# Altium schematic symbol library IC_Power.SchLib: 14 symbols
Pins are listed as number, name and electrical type; pins without a type are passive.

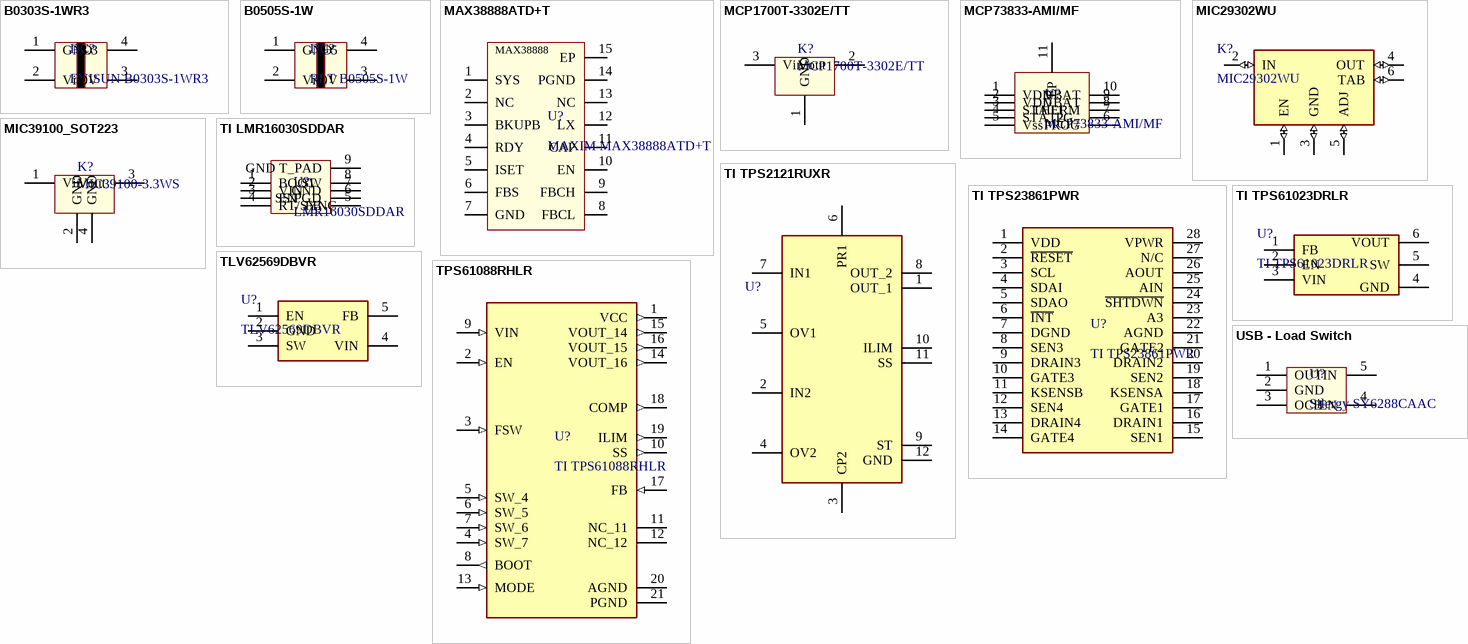
[diagram p0: symbols B0303S-1WR3 to USB - Load Switch]

## B0303S-1WR3
designator DC?, comment EVISUN B0303S-1WR3
Isolated Module DC DC Converter 3.3V 303mA 2.97V~3.63V Input; val: EVISUN B0303S-1WR3; sample link: https://www.lcsc.com/product-detail/C7465185.html?spm=wm.fly.bg.0.xh___wm.sxq.ssx.spl&lcsc_vid=FVFdBVUFR1ULBQFWR1cKXlxXQwQPVFVUQFJaUFIARFkxVlNRT1FYUVFVRFJWUDtW; unit price: $ 1.0212
footprint B_S-1W (SOT23, 6-Leads, Body 2.90x2.80mm, Pitch 0.95mm, IPC Medium Density)
pins: 1 GND "_", 2 Vin "_", 3 0V "_", 4 +3.3 "_"

## B0505S-1W
designator DC?, comment RLT B0505S-1W
Isolated Module DC DC Converter 1 Output 5V 200mA 4.5V~5.5V Input; note: from link; val: RLT B0505S-1W; sample link: https://www.lcsc.com/product-detail/C512032.html; unit price: $ 1.0096
footprint B_S-1W (SOT23, 6-Leads, Body 2.90x2.80mm, Pitch 0.95mm, IPC Medium Density)
pins: 1 GND "_", 2 Vin "_", 3 0V "_", 4 +5 "_"

## MAX38888ATD+T
designator U?, comment MAXIM MAX38888ATD+T
Supercapacitor 600mA TDFN-14-EP(3x3) Battery Management RoHS; note: Original; val: MAXIM MAX38888ATD+T; sample link: https://www.lcsc.com/product-detail/C2931491.html?s_z=n_max38888; datasheet: https://www.analog.com/media/en/technical-documentation/data-sheets/max38888.pdf; unit price: $ 4.0802
footprint MAX38888 (TDFN-EP Package 14 pins)
pins: 1 SYS, 2 NC, 3 BKUPB, 4 RDY, 5 ISET, 6 FBS, 7 GND, 8 FBCL, 9 FBCH, 10 EN, 11 CAP, 12 LX, 13 NC, 14 PGND, 15 EP
text: MAX38888

## MCP1700T-3302E/TT
designator K?
val: MCP1700T-3302E/TT; note: *; sample link: https://www.lcsc.com/product-detail/C39051.html?s_z=n_MCP1700T-3302E%252FTT; unit price: $ 0.4489
footprint SOT23-3 (SOT23, 3-Leads, Body 2.92x2.68mm, Pitch 0.95mm, IPC Medium Density)
pins: 1 GND, 2 Vout, 3 Vin

## MCP73833-AMI/MF
designator U?
Stand-Alone Linear Li-Ion / Li-Polymer Charge Management Controller; note: original; val: MCP73833-AMI/MF; sample link: https://www.lcsc.com/product-detail/C635264.html?s_z=n_q_MCP73833-AMI%252FMF&spm=wm.ssy.bg.0.xh&lcsc_vid=RVhdAVNUQwAIV1dSEwBWUF1URFhWXgYERVENVQEAQVExVlNRQFRdUldQR1ZYVTsOAxUeFF5JWBYZEEoKFBINSQcJGk4dAgUUFAk%3D; unit price: $ 1.69
footprint DFN-0-EP(3x3) (SOT23, 6-Leads, Body 2.90x2.80mm, Pitch 0.95mm, IPC Medium Density)
pins: 1 VDD "_", 2 VDD "_", 3 STAT1 "_", 4 STAT2 "_", 5 Vss "_", 6 PROG "_", 7 PG_ "_", 8 THERM "_", 9 VBAT "_", 10 VBAT "_", 11 EP "_"

## MIC29302WU
designator K?
Linear Voltage Regulator IC Positive Adjustable 1 Output 3A TO-263-5; note: Original; val: MIC29302WU; sample link: https://www.lcsc.com/product-detail/C2995533.html?s_z=n_MIC29302WU; unit price: $ 0.7581
footprint MIC29302WU
pins: 1 EN (io), 2 IN (io), 3 GND (io), 4 OUT (io), 5 ADJ (io), 6 TAB (io)

## MIC39100_SOT223
designator K?, comment MIC39100-3.3WS
LDO; / 2.25V -> 16V; / 1A Max; / Fixed Output - 1.8V, 2.5V, 3.3V, 5V; note: Original; val: MIC39100-3.3WS; sample link: https://www.lcsc.com/product-detail/Linear-Voltage-Regulators-span-style-background-color-ff0-LDO-span_MaxLinear-SPX3940AM3-L-3-3-TR_C48252.html; unit price: $ 0.7378
footprint SOT223-4 (SOT223, 4-Leads, Body 6,50x7,00mm (avg), Pitch 2,30mm, IPC Medium Density)
pins: 1 Vin, 2 GND, 3 Vout, 4 GND

## TI LMR16030SDDAR
designator U?, comment LMR16030SDDAR
60V 3A Step-Down Converter / 2.5MHz Buck Adjustable 1 SO-8-EP Voltage Regulators - DC DC Switching Regulators RoHS; note: original; val: LMR16030SDDAR; sample link: https://www.lcsc.com/product-detail/DC-DC-Converters_Texas-Instruments-LMR16030SDDAR_C136648.html; unit price: $ 0.5766
footprint SOIC8_T (SOIC, 8-Leads, Body 4.90x3.90mm, Pitch 1.27mm, Thermal Pad 3.10x2.40mm, IPC Medium Density)
pins: 1 BOOT "_", 2 VIN "_", 3 EN "_", 4 RT/SYNC "_", 5 FB "_", 6 SS/PGD "_", 7 GND "_", 8 SW "_", 9 GND T_PAD "_"

## TI TPS2121RUXR
designator U?  (value not drawn)
2.8-V to 22-V Priority Power MUX with Seamless Switchover; val: TI TPS2121RUXR; sample link: https://www.lcsc.com/product-detail/Battery-Management_Texas-Instruments-TPS2121RUXR_C485916.html?s_z=n_TPS2121; note: *; unit price: $ 1.23
footprint TPS2121RUXR
pins: 1 OUT_1, 2 IN2, 3 CP2, 4 OV2, 5 OV1, 6 PR1, 7 IN1, 8 OUT_2, 9 ST, 10 ILIM, 11 SS, 12 GND

## TI TPS23861PWR
designator U?
Power Sourcing Equipment (PSE) 25.5W TSSOP-28 Power Over Ethernet (PoE) Controllers RoHS; val: TI TPS23861PWR; note: *; sample link: http://lcsc.com/product-detail/C93245.html?s_z=n_TPS23861PW; unit price: $ 1.988
footprint SOP65P640X120-28N (TPS23861PWR)
pins: 1 VDD, 2 ~{RESET}, 3 SCL, 4 SDAI, 5 SDAO, 6 ~{INT}, 7 DGND, 8 SEN3, 9 DRAIN3, 10 GATE3, 11 KSENSB, 12 SEN4, 13 DRAIN4, 14 GATE4, 15 SEN1, 16 DRAIN1, 17 GATE1, 18 KSENSA, 19 SEN2, 20 DRAIN2, 21 GATE2, 22 AGND, 23 A3, 24 ~{SHTDWN}, 25 AIN, 26 AOUT, 27 N/C, 28 VPWR

## TI TPS61023DRLR
designator U?
3.7A boost converter with an ultra-low input voltage of 0.5V; sample link: https://www.lcsc.com/product-detail/DC-DC-Converters_Texas-Instruments-TPS61023DRLR_C919459.html?s_z=n_TPS61023; val: TI TPS61023DRLR; note: *; unit price: $ 1.34
footprint SOTFL50P160X60-6N
pins: 1 FB, 2 EN, 3 VIN, 4 GND, 5 SW, 6 VOUT

## TLV62569DBVR
designator U?
1.5MHz Step-down type Adjustable 600mV~5.5V 2A SOT-23-5 Voltage Regulators - DC DC Switching Regulators RoHS; note: original; val: TLV62569DBVR; sample link: https://www.lcsc.com/product-detail/DC-DC-Converters_Texas-Instruments-TLV62569DBVR_C141836.html?s_z=n_Step-down%20type%202.5V~5.5V; unit price: $ 0.0731
footprint SOT95P280X145-5N
pins: 1 EN, 2 GND, 3 SW, 4 VIN, 5 FB

## TPS61088RHLR
designator U?, comment TI TPS61088RHLR
Fully Integrated Synchronous Boost Converter; sample link: https://www.lcsc.com/product-detail/C87357.html?s_z=n_q_TPS61088&spm=wm.fly.bg.0.xh&lcsc_vid=QwBbXgVSRFJfV11VQANcX1JRFQdYVFIFEVMMBgICQlIxVlNeQlVXX11TQ1RbUTsOAxUeFF5JWBYZEEoKFBINSQcJGk4%3D; val: TI TPS61088RHLR; note: *; unit price: $ 1.1702
footprint IC_TPS61088RHLR
pins: 1 VCC (out), 2 EN (in), 3 FSW (in), 4 SW_7 (in), 5 SW_4 (in), 6 SW_5 (in), 7 SW_6 (in), 8 BOOT (out), 9 VIN (in), 10 SS (out), 11 NC_11, 12 NC_12, 13 MODE (in), 14 VOUT_16 (out), 15 VOUT_14 (out), 16 VOUT_15 (out), 17 FB (in), 18 COMP (out), 19 ILIM (out), 20 AGND (power), 21 PGND (power)

## USB - Load Switch
designator U?, comment Silergy SY6288CAAC
1 Active High 2A Load Switch SOT-23-5 Power Distribution Switches, Load Drivers RoHS; val: Silergy SY6288CAAC; note: *; sample link: https://www.lcsc.com/product-detail/Power-Distribution-Switches_Silergy-Corp-SY6288CAAC_C111830.html?s_z=n_Power%2520Distribution%2520Switches; unit price: $ 0.1562
footprint SOT23-5 (SOT23, 5-Leads, Body 2,95x2,45mm, Pitch 0,95mm, IPC Medium Density)
pins: 1 OUT "_", 2 GND "_", 3 OCB "_", 4 EN "_", 5 IN "_"